# Altium schematic symbol library 单片机.SchLib: 4 symbols
Pins are listed as number, name and electrical type; pins without a type are passive.

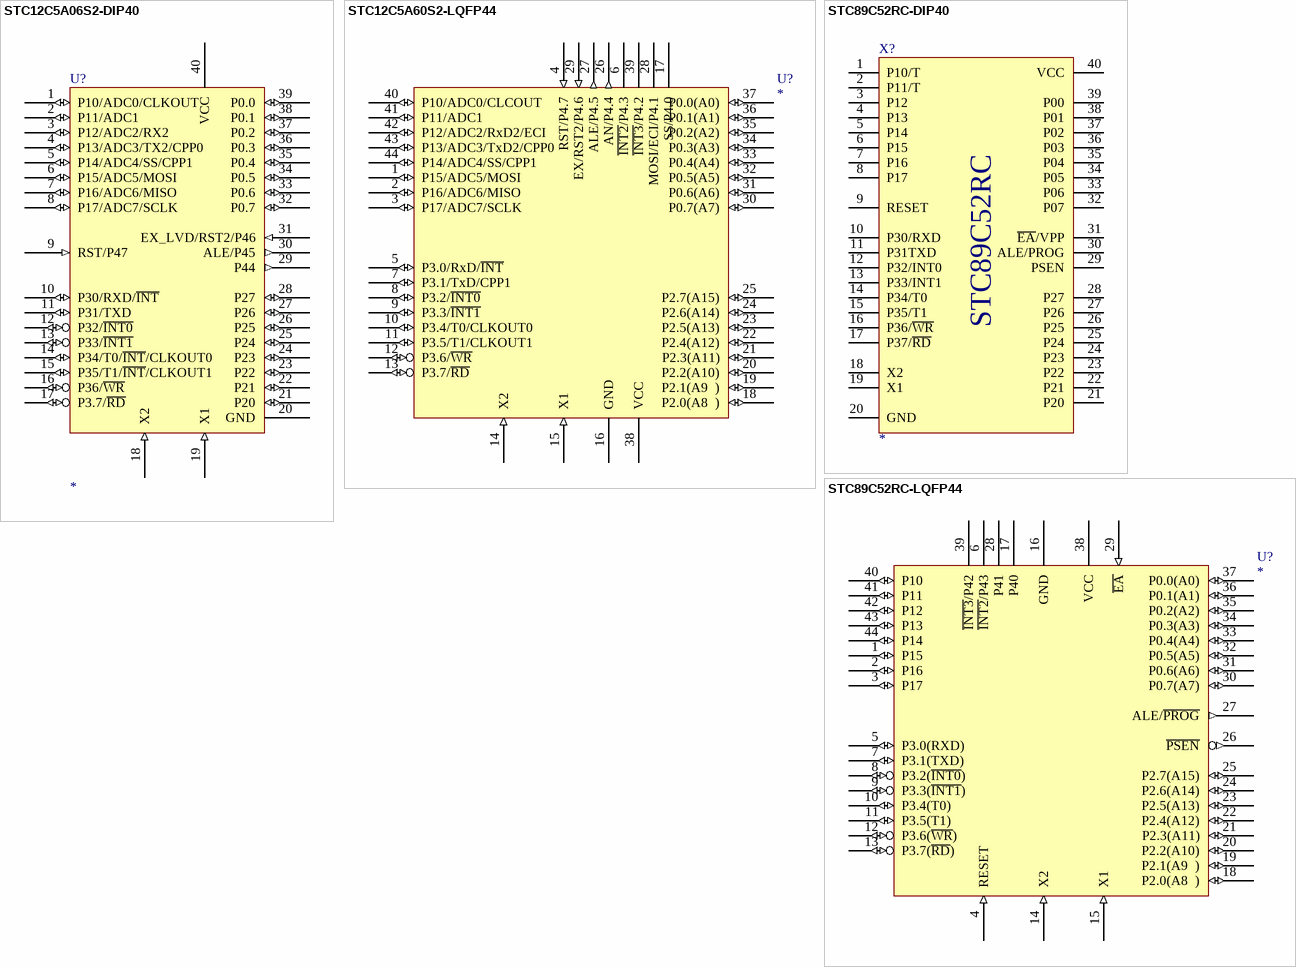
[diagram p0: symbols STC12C5A06S2-DIP40 to STC89C52RC-LQFP44]

## STC12C5A06S2-DIP40
designator U?
footprint DIP-40
pins: 1 P10/ADC0/CLKOUT (io), 2 P11/ADC1 (io), 3 P12/ADC2/RX2 (io), 4 P13/ADC3/TX2/CPP0 (io), 5 P14/ADC4/SS/CPP1 (io), 6 P15/ADC5/MOSI (io), 7 P16/ADC6/MISO (io), 8 P17/ADC7/SCLK (io), 9 RST/P47 (in), 10 P30/RXD/~{INT} (io), 11 P31/TXD (io), 12 P32/~{INT0} (io), 13 P33/~{INT1} (io), 14 P34/T0/~{INT}/CLKOUT0 (io), 15 P35/T1/~{INT}/CLKOUT1 (io), 16 P36/~{WR} (io), 17 P3.7/~{RD} (io), 18 X2 (in), 19 X1 (in), 20 GND (power) hidden to GND, 20 GND, 21 P20 (io), 22 P21 (io), 23 P22 (io), 24 P23 (io), 25 P24 (io), 26 P25 (io), 27 P26 (io), 28 P27 (io), 29 P44 (out), 30 ALE/P45 (out), 31 EX_LVD/RST2/P46 (in), 32 P0.7 (io), 33 P0.6 (io), 34 P0.5 (io), 35 P0.4 (io), 36 P0.3 (io), 37 P0.2 (io), 38 P0.1 (io), 39 P0.0 (io), 40 VCC (power) hidden to VCC, 40 VCC

## STC12C5A60S2-LQFP44
designator U?
footprint TQFP-44
pins: 1 P15/ADC5/MOSI (io), 2 P16/ADC6/MISO (io), 3 P17/ADC7/SCLK (io), 4 RST/P4.7 (in), 5 P3.0/RxD/~{INT} (io), 6 ~{INT2}/P4.3, 7 P3.1/TxD/CPP1 (io), 8 P3.2/~{INT0} (io), 9 P3.3/~{INT1} (io), 10 P3.4/T0/CLKOUT0 (io), 11 P3.5/T1/CLKOUT1 (io), 12 P3.6/~{WR} (io), 13 P3.7/~{RD} (io), 14 X2 (in), 15 X1 (in), 16 GND, 17 SS/P4.0, 18 P2.0(A8  ) (io), 19 P2.1(A9  ) (io), 20 P2.2(A10) (io), 21 P2.3(A11) (io), 22 P2.4(A12) (io), 23 P2.5(A13) (io), 24 P2.6(A14) (io), 25 P2.7(A15) (io), 26 AN/P4.4 (out), 27 ALE/P4.5 (out), 28 MOSI/ECI/P4.1, 29 EX/RST2/P4.6 (in), 30 P0.7(A7) (io), 31 P0.6(A6) (io), 32 P0.5(A5) (io), 33 P0.4(A4) (io), 34 P0.3(A3) (io), 35 P0.2(A2) (io), 36 P0.1(A1) (io), 37 P0.0(A0) (io), 38 VCC, 39 ~{INT3}/P4.2, 40 P10/ADC0/CLCOUT (io), 41 P11/ADC1 (io), 42 P12/ADC2/RxD2/ECI (io), 43 P13/ADC3/TxD2/CPP0 (io), 44 P14/ADC4/SS/CPP1 (io)

## STC89C52RC-DIP40
designator X?
footprint DIP-40
pins: 1 P10/T, 2 P11/T, 3 P12, 4 P13, 5 P14, 6 P15, 7 P16, 8 P17, 9 RESET, 10 P30/RXD, 11 P31TXD, 12 P32/INT0, 13 P33/INT1, 14 P34/T0, 15 P35/T1, 16 P36/~{WR}, 17 P37/~{RD}, 18 X2, 19 X1, 20 GND, 21 P20, 22 P21, 23 P22, 24 P23, 25 P24, 26 P25, 27 P26, 28 P27, 29 PSEN, 30 ALE/PROG, 31 ~{EA}/VPP, 32 P07, 33 P06, 34 P05, 35 P04, 36 P03, 37 P02, 38 P01, 39 P00, 40 VCC
text: STC89C52RC

## STC89C52RC-LQFP44
designator U?
footprint TQFP-44
pins: 1 P15 (io), 2 P16 (io), 3 P17 (io), 4 RESET (in), 5 P3.0(RXD) (io), 6 ~{INT2}/P43, 7 P3.1(TXD) (io), 8 P3.2(~{INT0}) (io), 9 P3.3(~{INT1}) (io), 10 P3.4(T0) (io), 11 P3.5(T1) (io), 12 P3.6(~{WR}) (io), 13 P3.7(~{RD}) (io), 14 X2 (in), 15 X1 (in), 16 GND, 17 P40, 18 P2.0(A8  ) (io), 19 P2.1(A9  ) (io), 20 P2.2(A10) (io), 21 P2.3(A11) (io), 22 P2.4(A12) (io), 23 P2.5(A13) (io), 24 P2.6(A14) (io), 25 P2.7(A15) (io), 26 ~{PSEN} (out), 27 ALE/~{PROG} (out), 28 P41, 29 ~{EA} (in), 30 P0.7(A7) (io), 31 P0.6(A6) (io), 32 P0.5(A5) (io), 33 P0.4(A4) (io), 34 P0.3(A3) (io), 35 P0.2(A2) (io), 36 P0.1(A1) (io), 37 P0.0(A0) (io), 38 VCC, 39 ~{INT3}/P42, 40 P10 (io), 41 P11 (io), 42 P12 (io), 43 P13 (io), 44 P14 (io)